# Altium schematic symbol library LED.SchLib: 13 symbols
Pins are listed as number, name and electrical type; pins without a type are passive.

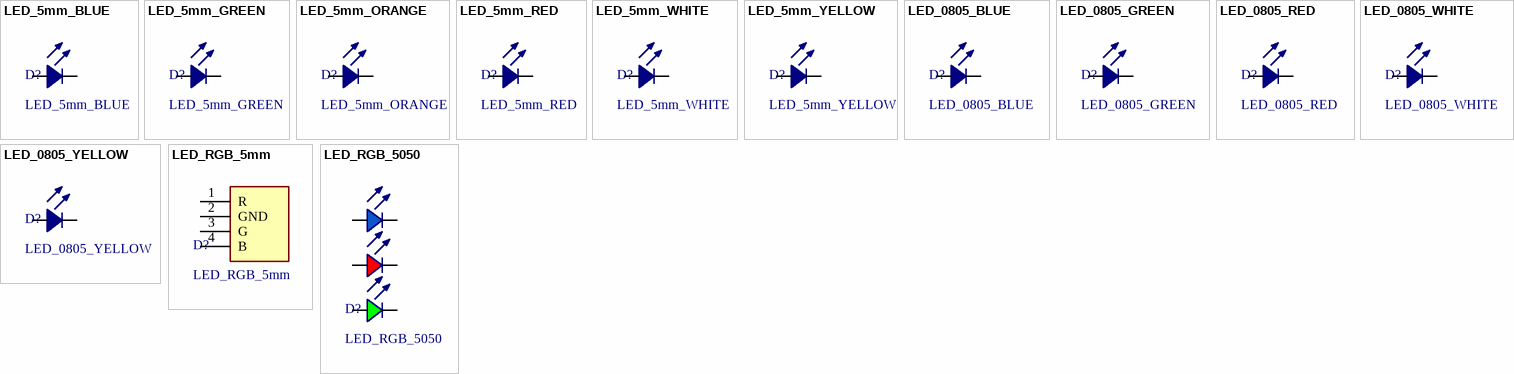
[diagram p0: symbols LED_5mm_BLUE to LED_RGB_5050]

## LED_5mm_BLUE
designator D?
LED PTH 5mm Blue.
footprint LED_5mm_BLUE
pins: 1, 2

## LED_5mm_GREEN
designator D?
LED PTH 5mm Green.
footprint LED_5mm_GREEN
pins: 1, 2

## LED_5mm_ORANGE
designator D?
LED PTH 5mm Orange.
footprint LED_5mm_ORANGE
pins: 1, 2

## LED_5mm_RED
designator D?
LED PTH 5mm Red.
footprint LED_5mm_RED
pins: 1, 2

## LED_5mm_WHITE
designator D?
LED PTH 5mm White.
footprint LED_5mm_WHITE
pins: 1, 2

## LED_5mm_YELLOW
designator D?
LED PTH 5mm Yellow.
footprint LED_5mm_YELLOW
pins: 1, 2

## LED_0805_BLUE
designator D?
LED 0805 Blue.; JLCPCB PN: C131208
footprint LED_0805_BLUE
pins: 1, 2

## LED_0805_GREEN
designator D?
LED 0805 Green.; JLCPCB PN: C2297
footprint LED_0805_GREEN
pins: 1, 2

## LED_0805_RED
designator D?
LED 0805 Red.; JLCPCB PN: C113551
footprint LED_0805_RED
pins: 1, 2

## LED_0805_WHITE
designator D?
LED 0805 White.; JLCPCB PN: C34499
footprint LED_0805_WHITE
pins: 1, 2

## LED_0805_YELLOW
designator D?
LED 0805 Yellow.; JLCPCB PN: C84261
footprint LED_0805_YELLOW
pins: 1, 2

## LED_RGB_5mm
designator D?
LED RGB 4 Pins 5mm Common Cathode.; JLCPCB PN: C2837021
footprint LED_RGB_5mm
pins: 1 R, 2 GND, 3 G, 4 B

## LED_RGB_5050
designator D?
LED RGB 5050 6 Pins.; JLCPCB PN: C2843868
footprint LED_RGB_5050
pins: 1, 2, 3, 4, 5, 6